# EAGLE library part IS31FL3729-QFLS4-TR (library edrtech_lib)
LED Lighting Drivers 16n(n=1-8) or 159 LED Matrix with PWM Control and Dot Correction, QFN-32 (4mm4mm), T&R Source: Datasheet <https://www.lumissil.com/assets/pdf/core/IS31FL3729_DS.pdf>
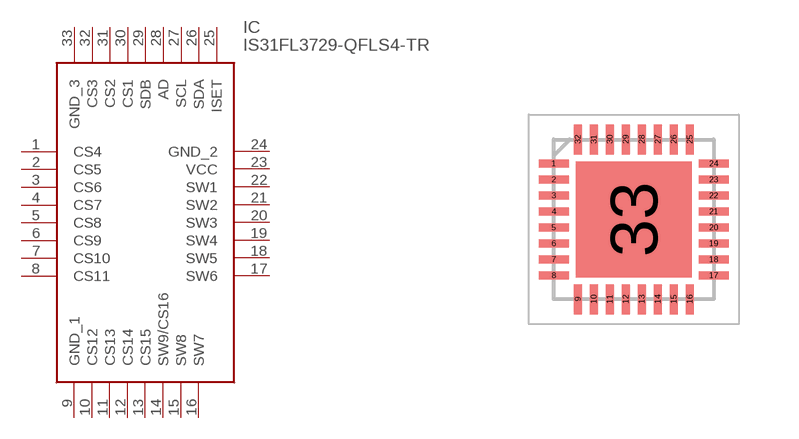
[diagram p26: symbol with the pads of QFN40P400X400X80-33N; footprint QFN40P400X400X80-33N]

Designator prefix IC

## IS31FL3729-QFLS4-TR (DESCRIPTION: LED Lighting Drivers 16n(n=1-8) or 159 LED Matrix with PWM Control and Dot Correction, QFN-32 (4mm4mm), T&R; HEIGHT: 0.8mm; MANUFACTURER_NAME: Integrated Silicon Solution Inc.; MANUFACTURER_PART_NUMBER: IS31FL3729-QFLS4-TR; MOUSER_PART_NUMBER: 870-IS31FL3729QFLS4T; MOUSER_PRICE-STOCK: https://www.mouser.com/Search/Refine.aspx?Keyword=870-IS31FL3729QFLS4T)  [QFN40P400X400X80-33N]
1  CS4
2  CS5
3  CS6
4  CS7
5  CS8
6  CS9
7  CS10
8  CS11
9  GND_1
10  CS12
11  CS13
12  CS14
13  CS15
14  SW9/CS16
15  SW8
16  SW7
17  SW6
18  SW5
19  SW4
20  SW3
21  SW2
22  SW1
23  VCC
24  GND_2
25  ISET
26  SDA
27  SCL
28  AD
29  SDB
30  CS1
31  CS2
32  CS3
33  GND_3

## Footprint QFN40P400X400X80-33N (pad centres in mm)
QFN-32
smd 0.75 x 0.2: 1 -2,1.4; 2 -2,1; 3 -2,0.6; 4 -2,0.2; 5 -2,-0.2; 6 -2,-0.6; 7 -2,-1; 8 -2,-1.4; 17 2,-1.4; 18 2,-1; 19 2,-0.6; 20 2,-0.2; 21 2,0.2; 22 2,0.6; 23 2,1; 24 2,1.4
smd 0.2 x 0.75: 9 -1.4,-2; 10 -1,-2; 11 -0.6,-2; 12 -0.2,-2; 13 0.2,-2; 14 0.6,-2; 15 1,-2; 16 1.4,-2; 25 1.4,2; 26 1,2; 27 0.6,2; 28 0.2,2; 29 -0.2,2; 30 -0.6,2; 31 -1,2; 32 -1.4,2
smd 2.9 x 2.9: 33 0,0